# Altium schematic symbol library Capacitors.SchLib: 3 symbols
Pins are listed as number, name and electrical type; pins without a type are passive.

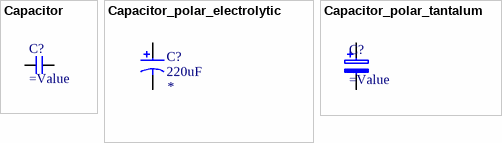
[diagram p0: symbols Capacitor to Capacitor_polar_tantalum]

## Capacitor
designator C?
pins: 1 2, 2

## Capacitor_polar_electrolytic
designator C?, comment 220uF
Tolerance ±20% / Voltage - Rated 50V / Can - SMD 2000 Hrs @ 105°C; Manufacturer: Panasonic Electronic Components; Supplier 1: Digi-Key; Supplier Part Number 1: PCE3812CT-ND; Case: Radial, Can - SMD; Value: 220uF; Vdc: *
pins: 1, 2

## Capacitor_polar_tantalum
designator C?
pins: 1, 2